# Altium footprint library 28xxxx.PcbLib: 4 footprints
Each footprint in its own frame and in the unit in brackets; x right, y up, seen from the top. Pads: shape width x height; smd on the part's side, far side on the other; paste and mask are expansions set on the pad; w line width, h text height; cw(c..) or ccw(c..) is an arc to the next point about the centre after c.
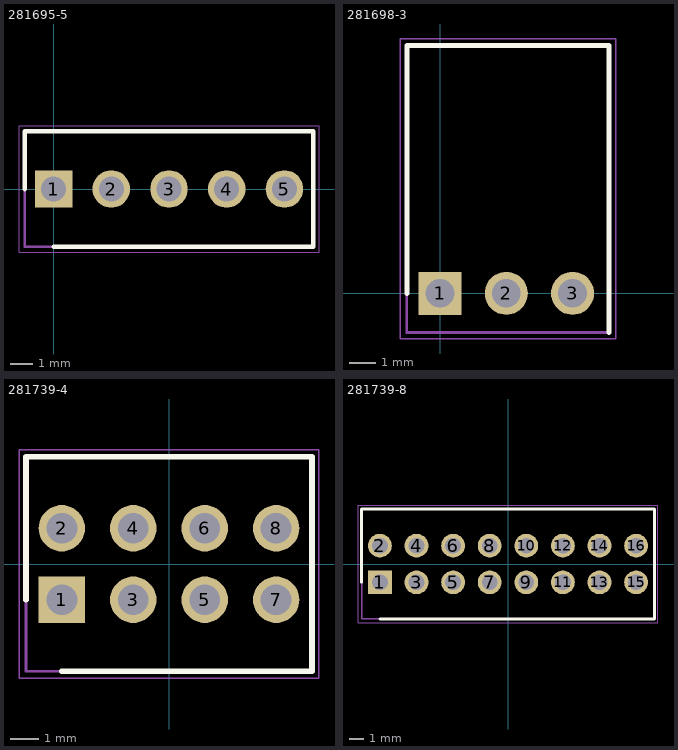
[diagram p0: the footprints below, top view; thin cyan lines are the x and y axes]

## 281695-5 [mm]
pads (5):
  rect 1.65x1.65 hole 1.1: 1(0,0)
  round 1.65 hole 1.1: 2(2.54,0) 3(5.08,0) 4(7.62,0) 5(10.16,0)
Top Overlay:
  lines w0.2: -1.27,0 -1.27,2.54 11.43,2.54 11.43,-2.54 0,-2.54
Mechanical 13:
  lines w0.1: -1.27,-2.54 -1.27,2.54 11.43,2.54 11.43,-2.54 -1.27,-2.54
Mechanical 15:
  lines w0.05: -1.52,-2.79 -1.52,2.79 11.68,2.79 11.68,-2.79 -1.52,-2.79
3D body "281695-5.stp": height 11.4, standoff -2.9, extent -1.27,-2.5 11.43,2.5

## 281698-3 [mm]
pads (3):
  rect 1.65x1.65 hole 1.1: 1(0,0)
  round 1.65 hole 1.1: 2(2.54,0) 3(5.08,0)
Top Overlay:
  lines w0.2: -1.27,0 -1.27,9.5 6.48,9.5 6.48,-1.5
Mechanical 13:
  lines w0.1: -1.27,-1.5 -1.27,9.5 6.48,9.5 6.48,-1.5 -1.27,-1.5
Mechanical 15:
  lines w0.05: -1.52,-1.75 6.73,-1.75 6.73,9.75 -1.52,9.75 -1.52,-1.75
3D body "281698-3.stp": height 4.91, standoff -2.99, extent -1.23,-0.347 6.39,12.77

## 281739-4 [mm]
pads (8):
  rect 1.65x1.65 hole 1.1: 1(-3.81,-1.27)
  round 1.65 hole 1.1: 2(-3.81,1.27) 3(-1.27,-1.27) 4(-1.27,1.27) 5(1.27,-1.27) 6(1.27,1.27) 7(3.81,-1.27) 8(3.81,1.27)
Top Overlay:
  lines w0.2: -5.08,-1.27 -5.08,3.81 5.08,3.81 5.08,-3.81 -3.81,-3.81
Mechanical 13:
  lines w0.1: -5.08,-3.81 -5.08,3.81 5.08,3.81 5.08,-3.81 -5.08,-3.81
Mechanical 15:
  lines w0.05: -5.33,-4.06 -5.33,4.06 5.33,4.06 5.33,-4.06 -5.33,-4.06
3D body "281739-4.stp": height 11.4, standoff -2.9, extent -5.08,-3.77 5.08,3.77

## 281739-8 [mm]
pads (16):
  rect 1.65x1.65 hole 1.1: 1(-8.89,-1.27)
  round 1.65 hole 1.1: 2(-8.89,1.27) 3(-6.35,-1.27) 4(-6.35,1.27) 5(-3.81,-1.27) 6(-3.81,1.27) 7(-1.27,-1.27) 8(-1.27,1.27) 9(1.27,-1.27) 10(1.27,1.27) 11(3.81,-1.27) 12(3.81,1.27) 13(6.35,-1.27) 14(6.35,1.27) 15(8.89,-1.27) 16(8.89,1.27)
Top Overlay:
  lines w0.2: -10.16,-1.27 -10.16,3.81 10.16,3.81 10.16,-3.81 -8.89,-3.81
Mechanical 13:
  lines w0.1: -10.16,-3.81 -10.16,3.81 10.16,3.81 10.16,-3.81 -10.16,-3.81
Mechanical 15:
  lines w0.05: -10.41,-4.06 -10.41,4.06 10.41,4.06 10.41,-4.06 -10.41,-4.06
3D body "281739-8.stp": height 11.31, standoff -2.99, extent -10.16,-3.77 10.16,3.77